# Altium footprint library fuse.PcbLib: 1 footprints
Each footprint in its own frame and in the unit in brackets; x right, y up, seen from the top. Pads: shape width x height; smd on the part's side, far side on the other; paste and mask are expansions set on the pad; w line width, h text height; cw(c..) or ccw(c..) is an arc to the next point about the centre after c.
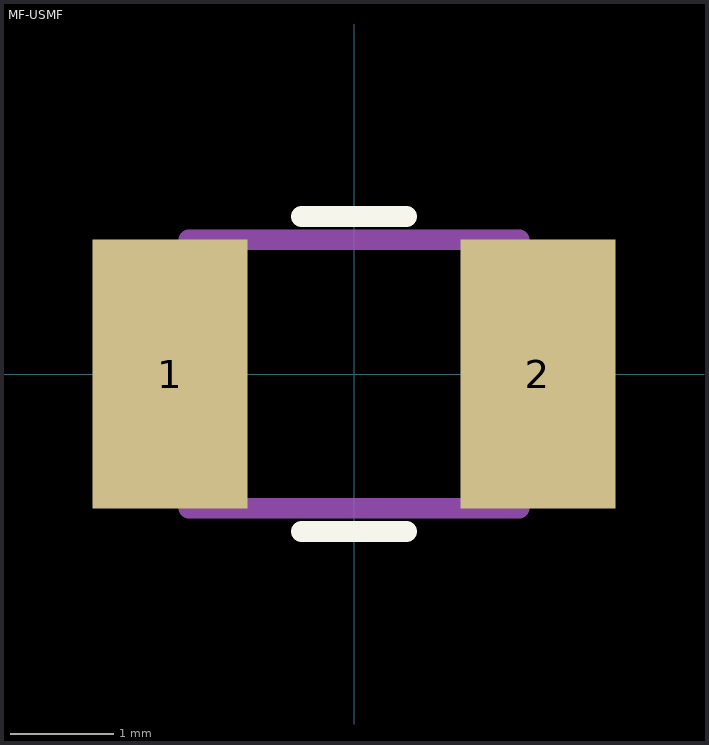
[diagram p0: the footprint, top view; thin cyan lines are the x and y axes]

## MF-USMF [mm]
pads (2):
  rect 1.5x2.6 smd: 1(-1.778,0) 2(1.778,0)
Top Overlay:
  lines w0.2: -0.508,-1.524 0.508,-1.524 ; -0.508,1.524 0.508,1.524
Mechanical 13:
  lines w0.2: -1.6,-1.3 1.6,-1.3 1.6,-0.422 cw(c1.6,-0.021) 1.6,0.381 1.6,1.3 -1.6,1.3 -1.6,0.422 cw(c-1.6,0.021) -1.6,-0.381 -1.6,-1.3
  text ".Designator" at -1.27,2.54 h1.52
3D body: height 1, standoff 0, extent -1.601,-1.301 1.601,1.301